# Altium schematic symbol library Z80-ays.SchLib: 14 symbols
Pins are listed as number, name and electrical type; pins without a type are passive.

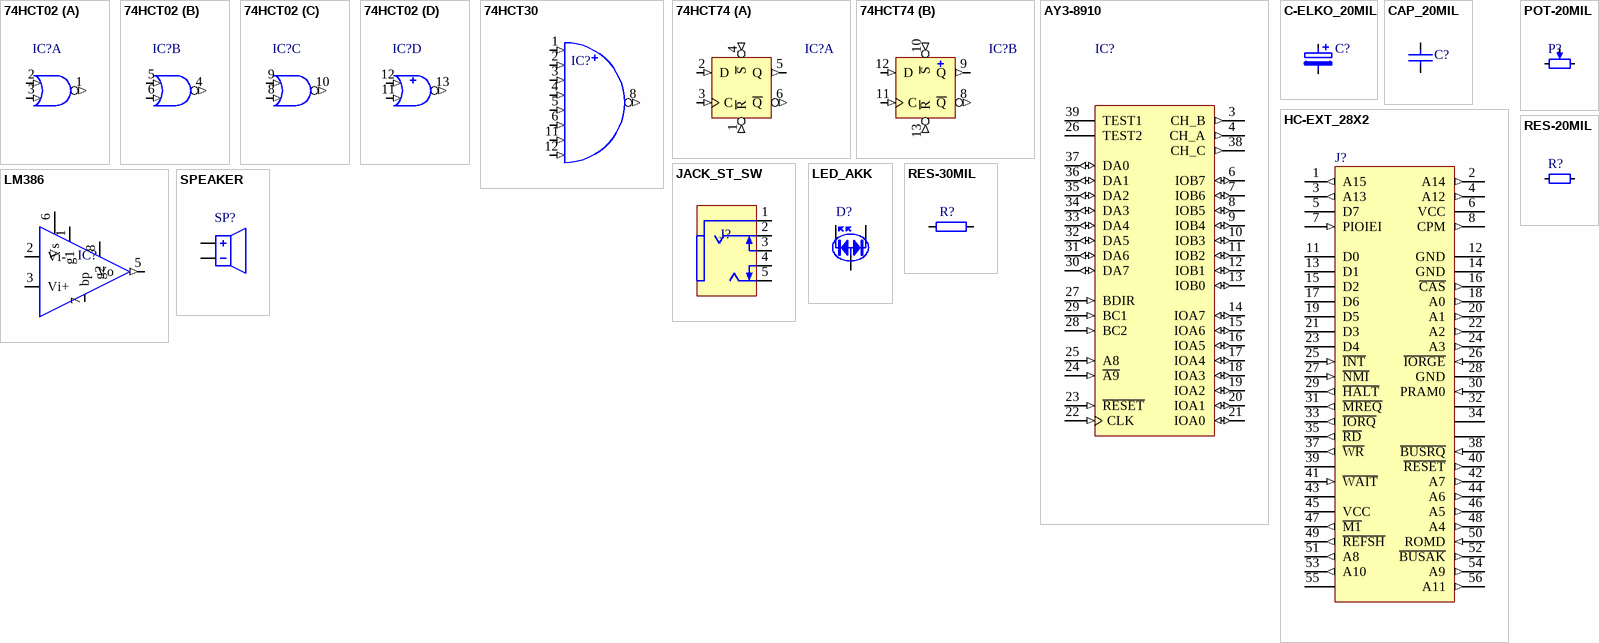
[diagram p0: symbols 74HCT02 to SPEAKER]

## 74HCT02
designator IC?
part A pins: 1 (out), 2 (in), 3 (in)
part B pins: 4 (out), 5 (in), 6 (in)
part C pins: 8 (in), 9 (in), 10 (out)
part D pins: 7 (power) hidden to GND, 11 (in), 12 (in), 13 (out), 14 (power) hidden to VCC

## 74HCT30
designator IC?
pins: 1 (in), 2 (in), 3 (in), 4 (in), 5 (in), 6 (in), 7 (power) hidden to GND, 8 (out), 11 (in), 12 (in), 14 (power) hidden to VCC

## 74HCT74
designator IC?
part A pins: 1 ~{R} (in), 2 D (in), 3 C (in), 4 ~{S} (in), 5 Q (out), 6 ~{Q} (out)
part B pins: 7 (power) hidden to GND, 8 ~{Q} (out), 9 Q (out), 10 ~{S} (in), 11 C (in), 12 D (in), 13 ~{R} (in), 14 (power) hidden to VCC

## AY3-8910
designator IC?
pins: 1 GND (power) hidden to GND, 3 CH_B (out), 4 CH_A (out), 6 IOB7 (io), 7 IOB6 (io), 8 IOB5 (io), 9 IOB4 (io), 10 IOB3 (io), 11 IOB2 (io), 12 IOB1 (io), 13 IOB0 (io), 14 IOA7 (io), 15 IOA6 (io), 16 IOA5 (io), 17 IOA4 (io), 18 IOA3 (io), 19 IOA2 (io), 20 IOA1 (io), 21 IOA0 (io), 22 CLK (in), 23 ~{RESET} (in), 24 ~{A9} (in), 25 A8 (in), 26 TEST2, 27 BDIR (in), 28 BC2 (in), 29 BC1 (in), 30 DA7 (io), 31 DA6 (io), 32 DA5 (io), 33 DA4 (io), 34 DA3 (io), 35 DA2 (io), 36 DA1 (io), 37 DA0 (io), 38 CH_C (out), 39 TEST1, 40 VCC (power) hidden to VCC

## C-ELKO_20MIL
designator C?
pins: 1, 2

## CAP_20MIL
designator C?
pins: 1, 2

## HC-EXT_28X2
designator J?
pins: 1 A15 (out), 2 A14 (out), 3 A13 (out), 4 A12 (out), 5 D7 (hiz), 6 VCC (power), 7 PIOIEI (in), 8 CPM (out), 11 D0 (hiz), 12 GND (power), 13 D1 (hiz), 14 GND (power), 15 D2 (hiz), 16 ~{CAS} (out), 17 D6 (hiz), 18 A0 (out), 19 D5 (hiz), 20 A1 (out), 21 D3 (hiz), 22 A2 (out), 23 D4 (hiz), 24 A3 (out), 25 ~{INT} (in), 26 ~{IORGE} (in), 27 ~{NMI} (in), 28 GND (power), 29 ~{HALT} (out), 30 PRAM0 (in), 31 ~{MREQ} (out), 32, 33 ~{IORQ} (out), 34, 35 ~{RD} (out), 36, 37 ~{WR} (out), 38 ~{BUSRQ} (in), 39, 40 ~{RESET} (out), 41 ~{WAIT} (in), 42 A7 (out), 43, 44 A6 (out), 45 VCC (power), 46 A5 (out), 47 ~{M1} (out), 48 A4 (out), 49 ~{REFSH} (out), 50 ROMD (in), 51 A8 (out), 52 ~{BUSAK} (out), 53 A10 (out), 54 A9 (out), 55, 56 A11 (out)

## JACK_ST_SW
designator J?
pins: 1, 2, 3, 4, 5

## LED_AKK
designator D?
pins: A, K1, K2

## LM386
designator IC?
pins: 1 g1, 2 Vi-, 3 Vi+, 4 G (power) hidden to GND, 5 Vo   (out), 6 Vs (power), 7 bp, 8 g2

## POT-20MIL
designator P?
pins: 1, 2, 3

## RES-20MIL
designator R?
pins: 1, 2

## RES-30MIL
designator R?
pins: 1, 2

## SPEAKER
designator SP?
pins: 1, 2